# EAGLE library part LM43601PWPR (library EagleLibrary)
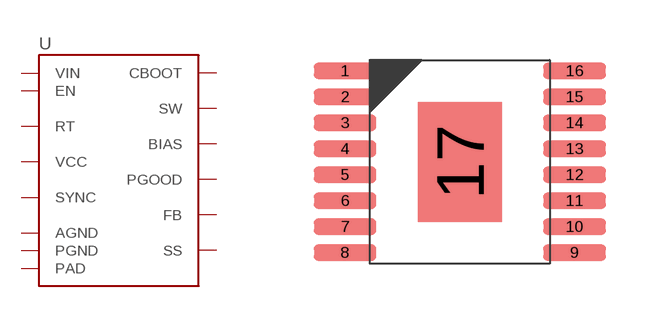
[diagram p22: symbol with the pads of LM43601PWPR; footprint LM43601PWPR]

Designator prefix U

## LM43601PWPR (MFG: Texas Instruments; PN: LM43601PWPR)  [LM43601PWPR]
1  SW
2  SW
3  CBOOT
4  VCC
5  BIAS
6  SYNC
7  RT
8  PGOOD
9  FB
10  AGND
11  SS
12  EN
13  VIN
14  VIN
15  PGND
16  PGND
17  PAD

## Footprint LM43601PWPR (pad centres in mm)
16-SOP, 0.65 mm pitch, 6.40 mm span, 5.00 X 4.40 X 1.20 mm body, 3.00 X 2.09 mm thermal pad 16-pin SOP package with 0.65 mm pitch, 6.40 mm span with body size 5.00 X 4.40 X 1.20 mm and thermal pad size 3.00 X 2.09 mm
smd 1.572 x 0.407: 1 -2.872,2.275; 2 -2.872,1.625; 3 -2.872,0.975; 4 -2.872,0.325; 5 -2.872,-0.325; 6 -2.872,-0.975; 7 -2.872,-1.625; 8 -2.872,-2.275; 9 2.872,-2.275; 10 2.872,-1.625; 11 2.872,-0.975; 12 2.872,-0.325; 13 2.872,0.325; 14 2.872,0.975; 15 2.872,1.625; 16 2.872,2.275
smd 2.09 x 3: 17 0,0